# Altium integrated library Altium_WL-SFCW (rev19b).IntLib: 4 symbols
Pins are listed as number, name and electrical type; pins without a type are passive.

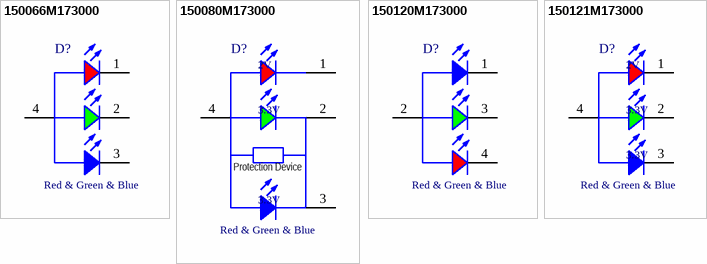
[diagram p0: symbols 150066M173000 to 150121M173000]

## 150066M173000
designator D?, comment Red & Green & Blue
WL-SFCW SMT Full-color Chip LED Waterclear, size 0606, Red & Green & Blue, 120deg; Part Number: 150066M173000; Chip Technology: AlInGaP + InGaN; Dominant Wavelength typ.: Blue:470nm, Green:527nm, Red:622nm; Forward Voltage typ.: Blue:3.3V, Green:3.3V, Red:1.9V; Luminous Intensity typ.: Blue:80mcd, Green:360mcd, Red:70mcd; Peak Wavelength typ.: Blue:468nm, Green:520nm, Red:636nm; Viewing Angle: 120deg; ComponentLink1Description: Manufacturer; ComponentLink1URL: http://www.we-online.de; ComponentLink2URL: https://www.we-online.com/catalog/datasheet/150066M173000.pdf; ComponentLink2Description: Datasheet; Emitting Color: Red & Green & Blue; Mounting Technology: SMT; Operating Temperature: -40 to +85degC; Published Date: December 2019; Packaging: Tape and Reel; Size: 0606; Publisher: Wurth Elektronik
footprint WL-SFCW_0606 (SMD Full-color Chip LED Waterclear, body 1.6x1.6mm)
pins: 1 K, 2 K, 3 K, 4 A

## 150080M173000
designator D?, comment Red & Green & Blue
WL-SFCW SMT Full-color Chip LED Waterclear, size 0805, Red & Green & Blue, 120deg; Part Number: 150080M173000; Chip Technology: AlInGaP + InGaN; Dominant Wavelength typ.: Blue:470nm, Green:525nm, Red:624nm; Forward Voltage typ.: Blue:3.3V, Green:3.3V, Red:2V; Luminous Intensity typ.: Blue:70mcd, Green:285mcd, Red:112mcd; Peak Wavelength typ.: Blue:468nm, Green:520nm, Red:632nm; Viewing Angle: 120deg; ComponentLink1Description: Manufacturer; ComponentLink1URL: http://www.we-online.de; ComponentLink2URL: https://www.we-online.com/catalog/datasheet/150080M173000.pdf; ComponentLink2Description: Datasheet; Emitting Color: Red & Green & Blue; Mounting Technology: SMT; Operating Temperature: -40 to +85degC; Published Date: December 2019; Packaging: Tape and Reel; Size: 0805; Publisher: Wurth Elektronik
footprint WL-SFCW_0805 (SMD Full-color Chip LED Waterclear, body 2x1.3mm)
pins: 1 K, 2 K, 3 K, 4 A
text: 2V; 3.3V; Protection Device

## 150120M173000
designator D?, comment Red & Green & Blue
WL-SFCW SMT Full-color Chip LED Waterclear, size 1206, Red & Green & Blue, 120deg; Part Number: 150120M173000; Chip Technology: AlInGaP + InGaN; Dominant Wavelength typ.: Blue:470nm, Green:525nm, Red:624nm; Forward Voltage typ.: Blue:3.3V, Green:3.3V, Red:2V; Luminous Intensity typ.: Blue:350mcd, Green:1000mcd, Red:360mcd; Peak Wavelength typ.: Blue:468nm, Green:520nm, Red:632nm; Viewing Angle: 120deg; ComponentLink1Description: Manufacturer; ComponentLink1URL: http://www.we-online.de; ComponentLink2URL: https://www.we-online.com/catalog/datasheet/150120M173000.pdf; ComponentLink2Description: Datasheet; Emitting Color: Red & Green & Blue; Mounting Technology: SMT; Operating Temperature: -40 to +85degC; Published Date: December 2019; Packaging: Tape and Reel; Size: 1206; Publisher: Wurth Elektronik
footprint WL-SFCW_1206 (SMT Full-color Chip LED Waterclear, body 3.2x1.6mm)
pins: 1 K, 2 A, 3 K, 4 K

## 150121M173000
designator D?, comment Red & Green & Blue
WL-SFCW SMT Full-color Chip LED Waterclear, size 1210, Red & Green & Blue, 120deg; Part Number: 150121M173000; Chip Technology: AlInGaP + InGaN; Dominant Wavelength typ.: Blue:470nm, Green:525nm, Red:624nm; Forward Voltage typ.: Blue:3.3V, Green:3.3V, Red:2V; Luminous Intensity typ.: Blue:80mcd, Green:285mcd, Red:70mcd; Peak Wavelength typ.: Blue:468nm, Green:520nm, Red:632nm; Viewing Angle: 120deg; ComponentLink1Description: Manufacturer; ComponentLink1URL: http://www.we-online.de; ComponentLink2URL: https://www.we-online.com/catalog/datasheet/150121M173000.pdf; ComponentLink2Description: Datasheet; Emitting Color: Red & Green & Blue; Mounting Technology: SMT; Operating Temperature: -40 to +85degC; Published Date: December 2019; Packaging: Tape and Reel; Size: 1210; Publisher: Wurth Elektronik
footprint WL-SFCW_1210 (SMD Full-color Chip LED Waterclear, body 3.2x2.7mm)
pins: 1 K, 2 K, 3 K, 4 A
text: 2V; 3.3V